# EAGLE library part GESTUREBOARD (library gestureBoardInterface_Kastl)
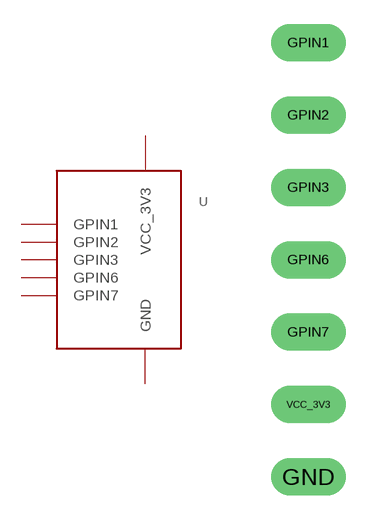
[diagram p0: symbol with the pads of INTERFACE_AND_POWER_CONN; footprint INTERFACE_AND_POWER_CONN]

Designator prefix -

## GESTUREBOARD  [INTERFACE_AND_POWER_CONN]
GND  GND
GPIN1  GPIN1
GPIN2  GPIN2
GPIN3  GPIN3
GPIN6  GPIN6
GPIN7  GPIN7
VCC_3V3  VCC_3V3

## Footprint INTERFACE_AND_POWER_CONN (pad centres in mm)
drill 0.8 long: GND 0,-7.62; GPIN1 0,7.62; GPIN2 0,5.08; GPIN3 0,2.54; GPIN6 0,0; GPIN7 0,-2.54; VCC_3V3 0,-5.08